# EAGLE library part ICTHU (library chuong)
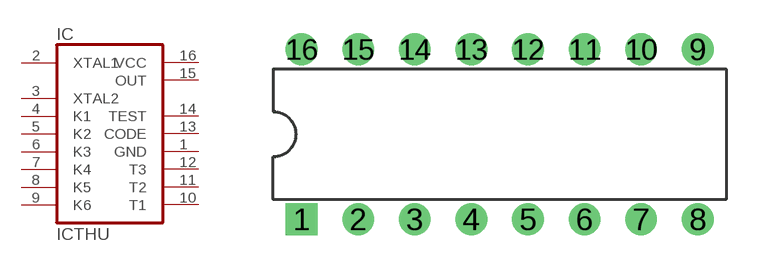
[diagram p65: symbol with the pads of DIL-16; footprint DIL-16]

Designator prefix IC

## ICTHU  [DIL-16]
1  GND  out
2  XTAL1  in
3  XTAL2  in
4  K1  out
5  K2  out
6  K3  out
7  K4  out
8  K5  out
9  K6  out
10  T1  out
11  T2  out
12  T3  out
13  CODE  out
14  TEST  out
15  OUT  out
16  VCC  out

## Footprint DIL-16 (pad centres in mm)
drill 0.61 pad 1.422 square: 1 -8.89,-3.81
drill 0.61 pad 1.422 round: 2 -6.35,-3.81; 3 -3.81,-3.81; 4 -1.27,-3.81; 5 1.27,-3.81; 6 3.81,-3.81; 7 6.35,-3.81; 8 8.89,-3.81; 9 8.89,3.81; 10 6.35,3.81; 11 3.81,3.81; 12 1.27,3.81; 13 -1.27,3.81; 14 -3.81,3.81; 15 -6.35,3.81; 16 -8.89,3.81